# EAGLE library part QUECTEL_L30 (library gps-gsm)
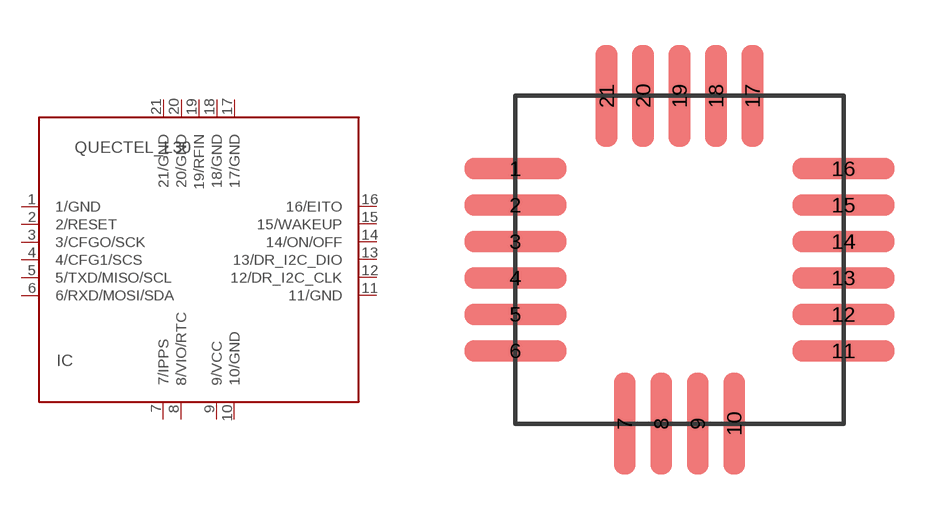
[diagram p23: symbol with the pads of QUECTEL_L30; footprint QUECTEL_L30]

Designator prefix IC

## QUECTEL_L30  [QUECTEL_L30]
1  1/GND  pwr
2  2/RESET  in
3  3/CFGO/SCK
4  4/CFG1/SCS
5  5/TXD/MISO/SCL
6  6/RXD/MOSI/SDA
7  7/IPPS
8  8/VIO/RTC
9  9/VCC  pwr
10  10/GND  pwr
11  11/GND  pwr
12  12/DR_I2C_CLK
13  13/DR_I2C_DIO
14  14/ON/OFF  out
15  15/WAKEUP
16  16/EITO
17  17/GND  pwr
18  18/GND  pwr
19  19/RFIN  in
20  20/GND  pwr
21  21/GND  pwr

## Footprint QUECTEL_L30 (pad centres in mm)
smd 2.8 x 0.6: 1 -4.5,2.5; 2 -4.5,1.5; 3 -4.5,0.5; 4 -4.5,-0.5; 5 -4.5,-1.5; 6 -4.5,-2.5; 11 4.5,-2.5; 12 4.5,-1.5; 13 4.5,-0.5; 14 4.5,0.5; 15 4.5,1.5; 16 4.5,2.5
smd 0.6 x 2.8: 7 -1.5,-4.5; 8 -0.5,-4.5; 9 0.5,-4.5; 10 1.5,-4.5; 17 2,4.5; 18 1,4.5; 19 0,4.5; 20 -1,4.5; 21 -2,4.5